# EAGLE library part LTC1861 (library ads4)
Linear Technology Dual 12-bit 250ksps A/D Converter
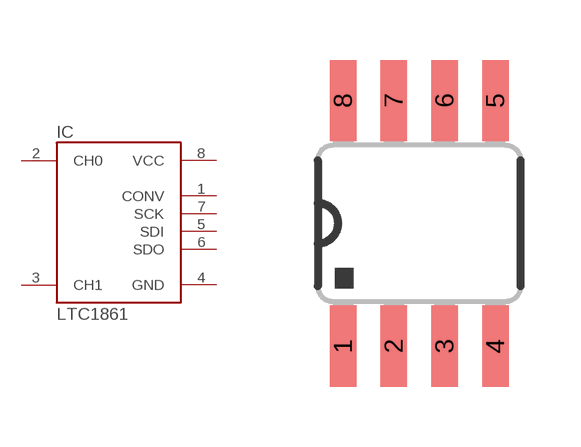
[diagram p74: symbol with the pads of SO08; footprint SO08]

Designator prefix IC

## LTC1861S8  [SO08]
1  CONV  in
2  CH0  pas
3  CH1  pas
4  GND  pwr
5  SDI  in
6  SDO  hiz
7  SCK  in
8  VCC  pwr

## Footprint SO08 (pad centres in mm)
SO08 Package from 74xx-us.lbr 0.15" body
smd 0.66 x 2.032: 1 -1.905,-3.073; 2 -0.635,-3.073; 3 0.635,-3.073; 4 1.905,-3.073; 5 1.905,3.073; 6 0.635,3.073; 7 -0.635,3.073; 8 -1.905,3.073